# Altium schematic symbol library SCH - MCU - RENESAS - RENESAS R7FS1287XXXXXXFM 64LQFP.SchLib: 1 symbol
Pins are listed as number, name and electrical type; pins without a type are passive.

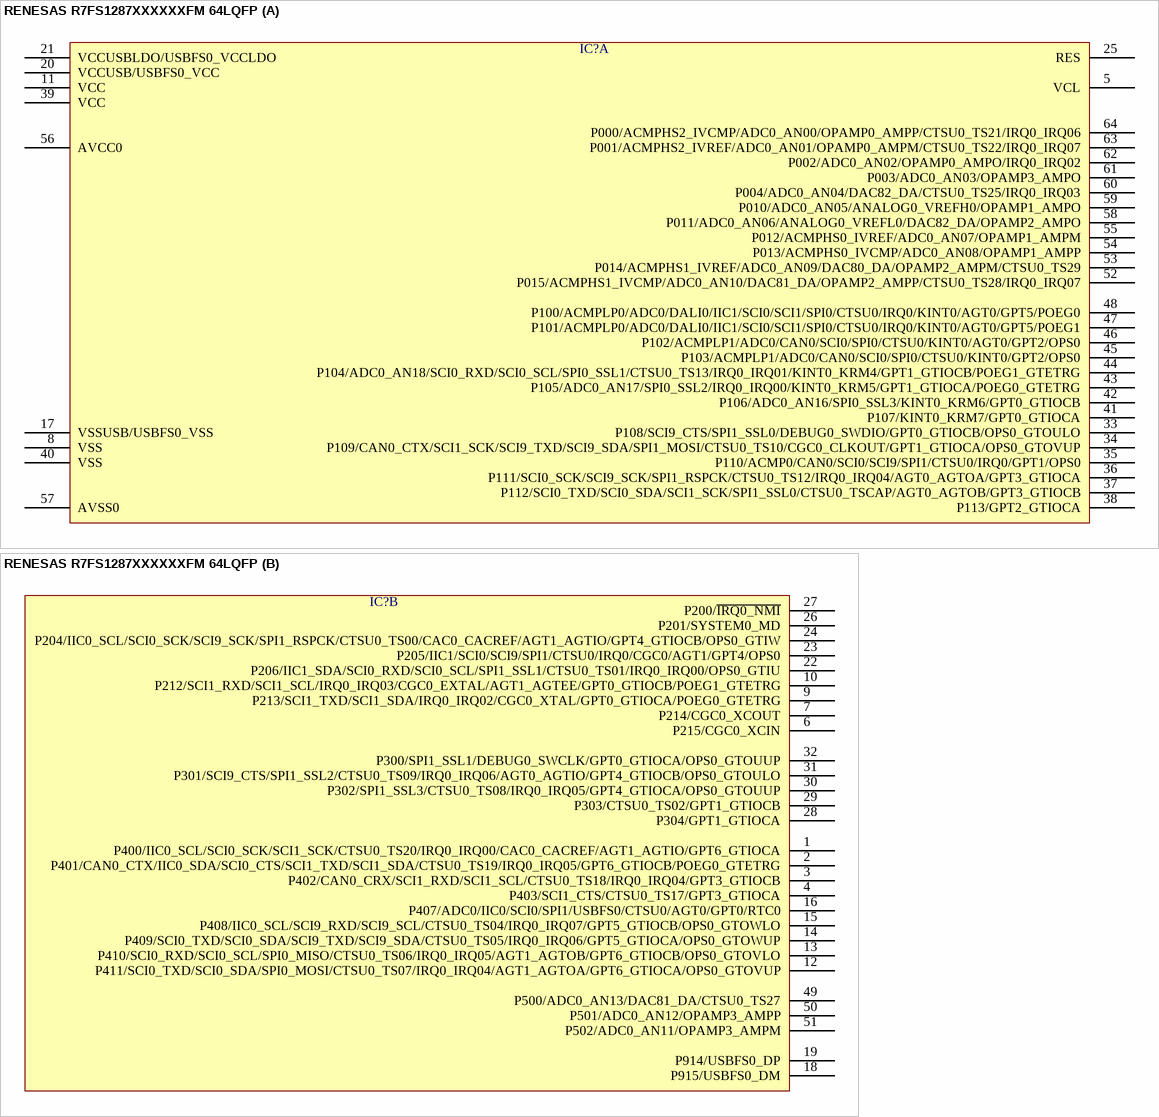
[diagram p0: symbol RENESAS R7FS1287XXXXXXFM 64LQFP]

## RENESAS R7FS1287XXXXXXFM 64LQFP
designator IC?  (value not drawn)
part A pins: 5 VCL, 8 VSS, 11 VCC, 17 VSSUSB/USBFS0_VSS, 20 VCCUSB/USBFS0_VCC, 21 VCCUSBLDO/USBFS0_VCCLDO, 25 RES, 33 P108/SCI9_CTS/SPI1_SSL0/DEBUG0_SWDIO/GPT0_GTIOCB/OPS0_GTOULO, 34 P109/CAN0_CTX/SCI1_SCK/SCI9_TXD/SCI9_SDA/SPI1_MOSI/CTSU0_TS10/CGC0_CLKOUT/GPT1_GTIOCA/OPS0_GTOVUP, 35 P110/ACMP0/CAN0/SCI0/SCI9/SPI1/CTSU0/IRQ0/GPT1/OPS0, 36 P111/SCI0_SCK/SCI9_SCK/SPI1_RSPCK/CTSU0_TS12/IRQ0_IRQ04/AGT0_AGTOA/GPT3_GTIOCA, 37 P112/SCI0_TXD/SCI0_SDA/SCI1_SCK/SPI1_SSL0/CTSU0_TSCAP/AGT0_AGTOB/GPT3_GTIOCB, 38 P113/GPT2_GTIOCA, 39 VCC, 40 VSS, 41 P107/KINT0_KRM7/GPT0_GTIOCA, 42 P106/ADC0_AN16/SPI0_SSL3/KINT0_KRM6/GPT0_GTIOCB, 43 P105/ADC0_AN17/SPI0_SSL2/IRQ0_IRQ00/KINT0_KRM5/GPT1_GTIOCA/POEG0_GTETRG, 44 P104/ADC0_AN18/SCI0_RXD/SCI0_SCL/SPI0_SSL1/CTSU0_TS13/IRQ0_IRQ01/KINT0_KRM4/GPT1_GTIOCB/POEG1_GTETRG, 45 P103/ACMPLP1/ADC0/CAN0/SCI0/SPI0/CTSU0/KINT0/GPT2/OPS0, 46 P102/ACMPLP1/ADC0/CAN0/SCI0/SPI0/CTSU0/KINT0/AGT0/GPT2/OPS0, 47 P101/ACMPLP0/ADC0/DALI0/IIC1/SCI0/SCI1/SPI0/CTSU0/IRQ0/KINT0/AGT0/GPT5/POEG1, 48 P100/ACMPLP0/ADC0/DALI0/IIC1/SCI0/SCI1/SPI0/CTSU0/IRQ0/KINT0/AGT0/GPT5/POEG0, 52 P015/ACMPHS1_IVCMP/ADC0_AN10/DAC81_DA/OPAMP2_AMPP/CTSU0_TS28/IRQ0_IRQ07, 53 P014/ACMPHS1_IVREF/ADC0_AN09/DAC80_DA/OPAMP2_AMPM/CTSU0_TS29, 54 P013/ACMPHS0_IVCMP/ADC0_AN08/OPAMP1_AMPP, 55 P012/ACMPHS0_IVREF/ADC0_AN07/OPAMP1_AMPM, 56 AVCC0, 57 AVSS0, 58 P011/ADC0_AN06/ANALOG0_VREFL0/DAC82_DA/OPAMP2_AMPO, 59 P010/ADC0_AN05/ANALOG0_VREFH0/OPAMP1_AMPO, 60 P004/ADC0_AN04/DAC82_DA/CTSU0_TS25/IRQ0_IRQ03, 61 P003/ADC0_AN03/OPAMP3_AMPO, 62 P002/ADC0_AN02/OPAMP0_AMPO/IRQ0_IRQ02, 63 P001/ACMPHS2_IVREF/ADC0_AN01/OPAMP0_AMPM/CTSU0_TS22/IRQ0_IRQ07, 64 P000/ACMPHS2_IVCMP/ADC0_AN00/OPAMP0_AMPP/CTSU0_TS21/IRQ0_IRQ06
part B pins: 1 P400/IIC0_SCL/SCI0_SCK/SCI1_SCK/CTSU0_TS20/IRQ0_IRQ00/CAC0_CACREF/AGT1_AGTIO/GPT6_GTIOCA, 2 P401/CAN0_CTX/IIC0_SDA/SCI0_CTS/SCI1_TXD/SCI1_SDA/CTSU0_TS19/IRQ0_IRQ05/GPT6_GTIOCB/POEG0_GTETRG, 3 P402/CAN0_CRX/SCI1_RXD/SCI1_SCL/CTSU0_TS18/IRQ0_IRQ04/GPT3_GTIOCB, 4 P403/SCI1_CTS/CTSU0_TS17/GPT3_GTIOCA, 6 P215/CGC0_XCIN, 7 P214/CGC0_XCOUT, 9 P213/SCI1_TXD/SCI1_SDA/IRQ0_IRQ02/CGC0_XTAL/GPT0_GTIOCA/POEG0_GTETRG, 10 P212/SCI1_RXD/SCI1_SCL/IRQ0_IRQ03/CGC0_EXTAL/AGT1_AGTEE/GPT0_GTIOCB/POEG1_GTETRG, 12 P411/SCI0_TXD/SCI0_SDA/SPI0_MOSI/CTSU0_TS07/IRQ0_IRQ04/AGT1_AGTOA/GPT6_GTIOCA/OPS0_GTOVUP, 13 P410/SCI0_RXD/SCI0_SCL/SPI0_MISO/CTSU0_TS06/IRQ0_IRQ05/AGT1_AGTOB/GPT6_GTIOCB/OPS0_GTOVLO, 14 P409/SCI0_TXD/SCI0_SDA/SCI9_TXD/SCI9_SDA/CTSU0_TS05/IRQ0_IRQ06/GPT5_GTIOCA/OPS0_GTOWUP, 15 P408/IIC0_SCL/SCI9_RXD/SCI9_SCL/CTSU0_TS04/IRQ0_IRQ07/GPT5_GTIOCB/OPS0_GTOWLO, 16 P407/ADC0/IIC0/SCI0/SPI1/USBFS0/CTSU0/AGT0/GPT0/RTC0, 18 P915/USBFS0_DM, 19 P914/USBFS0_DP, 22 P206/IIC1_SDA/SCI0_RXD/SCI0_SCL/SPI1_SSL1/CTSU0_TS01/IRQ0_IRQ00/OPS0_GTIU, 23 P205/IIC1/SCI0/SCI9/SPI1/CTSU0/IRQ0/CGC0/AGT1/GPT4/OPS0, 24 P204/IIC0_SCL/SCI0_SCK/SCI9_SCK/SPI1_RSPCK/CTSU0_TS00/CAC0_CACREF/AGT1_AGTIO/GPT4_GTIOCB/OPS0_GTIW, 26 P201/SYSTEM0_MD, 27 P200/~{IRQ0_NMI}, 28 P304/GPT1_GTIOCA, 29 P303/CTSU0_TS02/GPT1_GTIOCB, 30 P302/SPI1_SSL3/CTSU0_TS08/IRQ0_IRQ05/GPT4_GTIOCA/OPS0_GTOUUP, 31 P301/SCI9_CTS/SPI1_SSL2/CTSU0_TS09/IRQ0_IRQ06/AGT0_AGTIO/GPT4_GTIOCB/OPS0_GTOULO, 32 P300/SPI1_SSL1/DEBUG0_SWCLK/GPT0_GTIOCA/OPS0_GTOUUP, 49 P500/ADC0_AN13/DAC81_DA/CTSU0_TS27, 50 P501/ADC0_AN12/OPAMP3_AMPP, 51 P502/ADC0_AN11/OPAMP3_AMPM